# Altium schematic symbol library TL431ACD.SchLib: 1 symbol
Pins are listed as number, name and electrical type; pins without a type are passive.

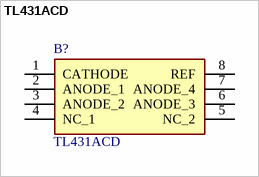
[diagram p0: symbol TL431ACD]

## TL431ACD
designator B?
TL431ACD, Adjustable Voltage Reference 2.5 to 36V, 1% 100mA 37V max. 8-Pin SOIC; Manufacturer_Name: Texas Instruments; Geometry.Height: 1.75mm; Mouser Part Number: 595-TL431ACD; Mouser Price/Stock: https://www.mouser.co.uk/ProductDetail/Texas-Instruments/TL431ACD?qs=b0gIXGU74fOOZ7NbSZF2Kg%3D%3D; Manufacturer_Part_Number: TL431ACD; Datasheet Link: https://www.ti.com/lit/ds/symlink/tl431.pdf?HQS=TI-null-null-mousermode-df-pf-null-wwe&ts=1593427466636&ref_url=https%253A%252F%252Fwww.mouser.in%252F
footprint SOIC127P600X175-8N
pins: 1 CATHODE, 2 ANODE_1, 3 ANODE_2, 4 NC_1, 5 NC_2, 6 ANODE_3, 7 ANODE_4, 8 REF